# Altium schematic symbol library Trans.SchLib: 10 symbols
Pins are listed as number, name and electrical type; pins without a type are passive.

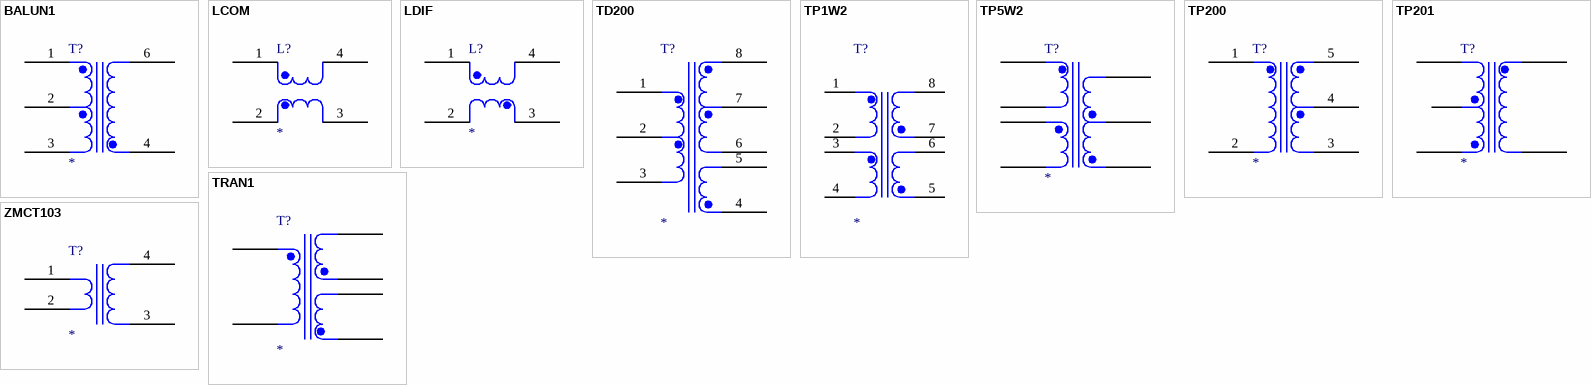
[diagram p0: symbols BALUN1 to ZMCT103]

## BALUN1
designator T?
200W/90V/30Khz Inverter transformer
footprint BL5
pins: 1, 2, 3, 4, 6

## LCOM
designator L?
footprint RB16W-0202
pins: 1, 2, 3, 4

## LDIF
designator L?
pins: 1, 2, 3, 4

## TD200
designator T?
footprint RB16-0305
pins: 1, 2, 3, 4, 5, 6, 7, 8

## TP1W2
designator T?
0.6W(200/3.3V)反激变压器
footprint BE10-8L (EE10 4+4立式)
footprint BE10-8H (EE10 4+4卧式)
pins: 1, 2, 3, 4, 5, 6, 7, 8

## TP5W2
designator T?
5W(18V/6V) switch power supply transformer
footprint BE13-B
pins: 1, 2, 3, 4, 5, 6, 7

## TP200
designator T?
200W/90V/30Khz Inverter transformer
footprint RB35-0203
pins: 1, 2, 3, 4, 5

## TP201
designator T?
5W/5V/30Khz Inverter transformer
footprint BE13-D
pins: 1, 2, 3, 4, 5

## TRAN1
designator T?
5W(18V/6V) switch power supply transformer
footprint BE13-B
pins: 1, 2, 3, 4, 5, 6

## ZMCT103
designator T?
5A/5mA current transformer
footprint CT103
pins: 1, 2, 3, 4